# Altium schematic symbol library SCH - POWER - SWITCHMODE - TI LMR23630AQDDARQ1.Schlib: 1 symbol
Pins are listed as number, name and electrical type; pins without a type are passive.

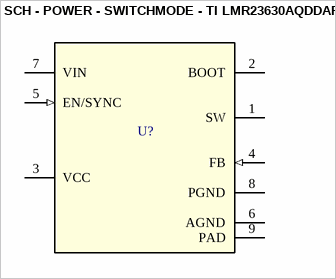
[diagram p0: symbol SCH - POWER - SWITCHMODE - TI LMR23630AQDDARQ1]

## SCH - POWER - SWITCHMODE - TI LMR23630AQDDARQ1
designator U?
footprint DDA0008E_N
pins: 1 SW (power), 2 BOOT (power), 3 VCC (power), 4 FB (in), 5 EN/SYNC (in), 6 AGND (power), 7 VIN (power), 8 PGND (power), 9 PAD (power)